# EAGLE library part PIC16F1825 (library microchip-special)
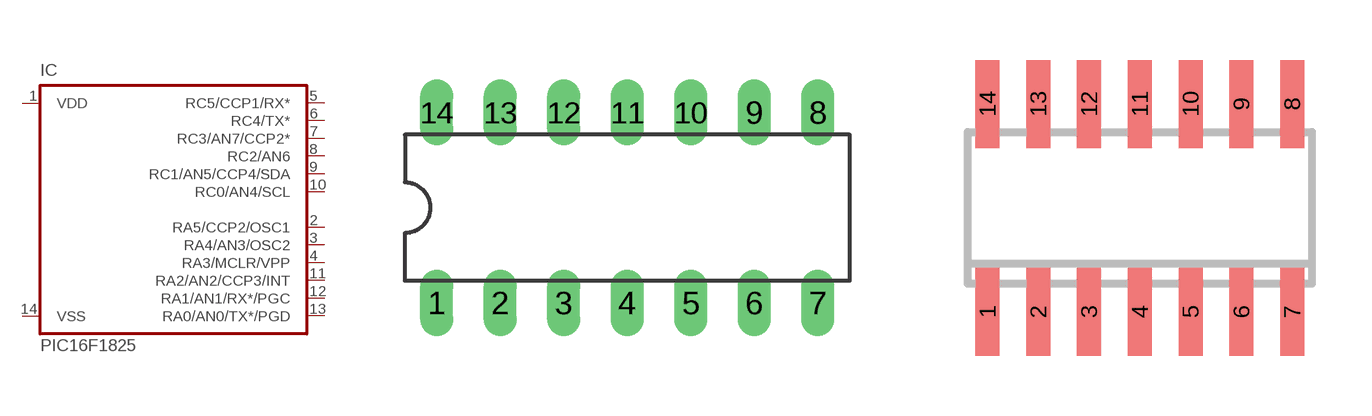
[diagram p15: symbol with the pads of DIL14; footprints DIL14, SO14]

Designator prefix IC

## PIC16F1825/P  [DIL14]
1  VDD  pwr
2  RA5/CCP2/OSC1
3  RA4/AN3/OSC2
4  RA3/MCLR/VPP  in
5  RC5/CCP1/RX*
6  RC4/TX*
7  RC3/AN7/CCP2*
8  RC2/AN6
9  RC1/AN5/CCP4/SDA
10  RC0/AN4/SCL
11  RA2/AN2/CCP3/INT
12  RA1/AN1/RX*/PGC
13  RA0/AN0/TX*/PGD
14  VSS  pwr

## PIC16F1825/SL  [SO14]
Pads as for DIL14

## Footprint DIL14 (pad centres in mm)
Dual In Line Package
drill 0.813 long: 1 -7.62,-3.81; 2 -5.08,-3.81; 3 -2.54,-3.81; 4 0,-3.81; 5 2.54,-3.81; 6 5.08,-3.81; 7 7.62,-3.81; 8 7.62,3.81; 9 5.08,3.81; 10 2.54,3.81; 11 0,3.81; 12 -2.54,3.81; 13 -5.08,3.81; 14 -7.62,3.81

## Footprint SO14 (pad centres in mm)
SMALL OUTLINE INTEGRATED CIRCUIT body 3.9 mm/JEDEC MS-012AC
smd 0.6 x 2.2: 1 -3.81,-2.6; 2 -2.54,-2.6; 3 -1.27,-2.6; 4 0,-2.6; 5 1.27,-2.6; 6 2.54,-2.6; 7 3.81,-2.6; 8 3.81,2.6; 9 2.54,2.6; 10 1.27,2.6; 11 0,2.6; 12 -1.27,2.6; 13 -2.54,2.6; 14 -3.81,2.6